# Altium footprint library PcbLib1.PcbLib: 36 footprints (part 2 of 3)
Each footprint in its own frame and in the unit in brackets; x right, y up, seen from the top. Pads: shape width x height; smd on the part's side, far side on the other; paste and mask are expansions set on the pad; w line width, h text height; cw(c..) or ccw(c..) is an arc to the next point about the centre after c.
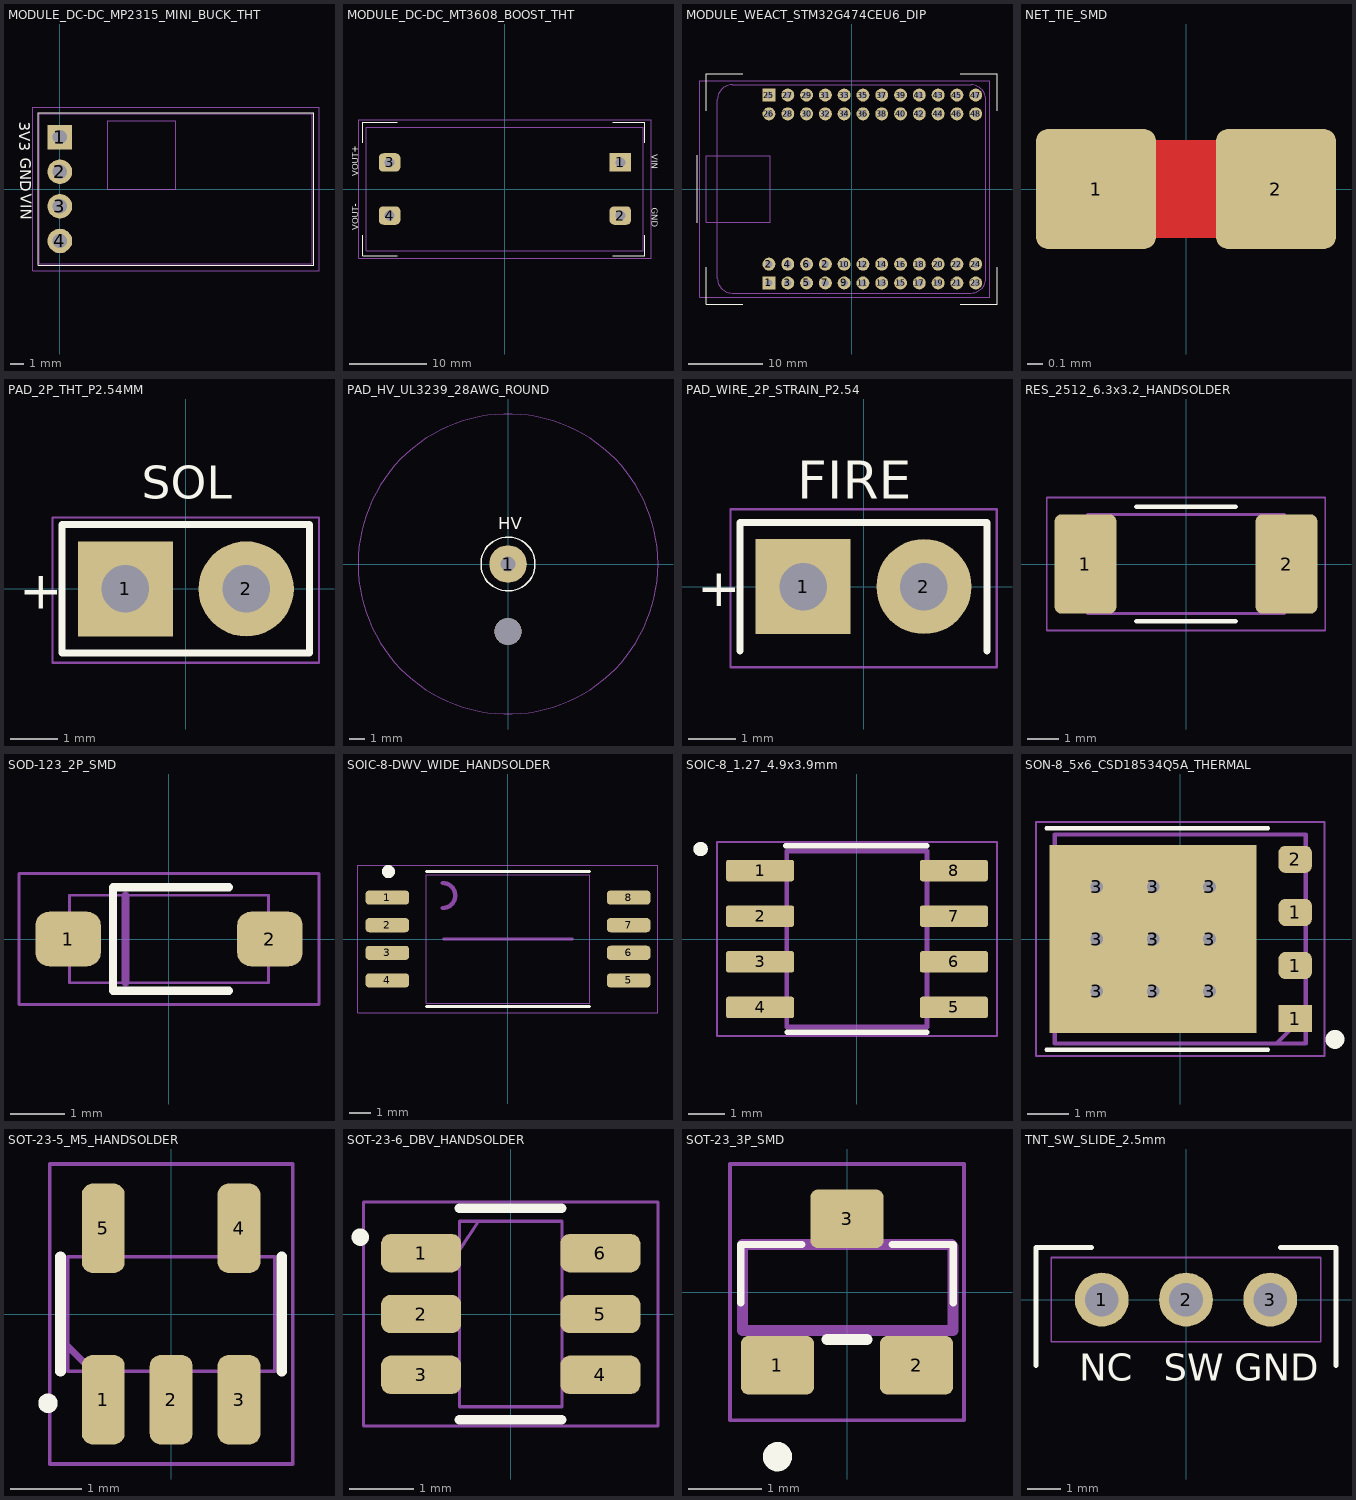
[diagram p1: the footprints below, top view; thin cyan lines are the x and y axes]

## MODULE_DC-DC_MP2315_MINI_BUCK_THT [mm] "Mini MP2315 Step-Down Buck Converter Module, 4-Pin 2.54mm Pitch Header (VO+, GND, IN+, EN), Board Size 20x11mm, Sub-Board PCB Mount"
pads (4):
  rect 1.8x1.8 hole 1.05 unplated mask+0.05: 1(0,3.81)
  round 1.8 hole 1.05 unplated mask+0.05: 2(0,1.27) 3(0,-1.27) 4(0,-3.81)
Top Overlay:
  lines w0.05: -1.6,-5.6 18.6,-5.6 18.6,5.6 -1.6,5.6 -1.6,-5.6
  text "VIN" at -2.875,-0.35 h0.8
  text "GND" at -2.925,2.275 h0.8
  text "3V3" at -3,4.95 h0.8
Top Assembly:
  lines w0.05: -1.5,-5.5 18.5,-5.5 18.5,5.5 -1.5,5.5 -1.5,-5.5 ; 3.5,0 8.5,0 8.5,5 3.5,5 3.5,0
  text ".Designator" at 8.15,-0.583 h0.8
Top Courtyard (Mech15):
  lines w0.05: -2,-6 19,-6 19,6 -2,6 -2,-6
3D body "05KJ_Mini_PCB_Regulator_With_Pin_Assem_.STEP": height 7.59, standoff -5.51, extent -1.55,-5.475 18.45,5.525

## MODULE_DC-DC_MT3608_BOOST_THT [mm] "MT3608 Step-Up Boost Converter Module, 36x17x7mm, 4-Pin Corner Mount (VIN+, VIN-, VOUT+, VOUT-), Pitch 31.0x13.5mm, Preset to 15V"
pads (4):
  rect 2.8x2.4 hole 1.3 mask+0.05: 1(15,3.45)
  rrect50% 2.8x2.4 hole 1.3 mask+0.05: 2(15,-3.45) 3(-15,3.45) 4(-15,-3.45)
Top Overlay:
  lines w0.15: -18.5,-6 -18.5,-8.7 -14,-8.7 ; -18.5,6 -18.5,8.7 -14,8.7 ; 14,-8.7 18.2,-8.7 18.2,-6 ; 14,8.7 18.2,8.7 18.2,6
  text "GND" at 19.1,-2.434 h0.8
  text "VIN" at 19.1,4.5 h0.8
  text "VOUT-" at -19.1,-5.366 h0.8
  text "VOUT+" at -19.1,1.634 h0.8
Top Assembly:
  lines w0.05: -18,-8 18,-8 18,8 -18,8 -18,-8
  text ".Designator" at -3.999,-0.267 h0.8
Top Courtyard (Mech15):
  lines w0.1: -19,-9 19,-9 19,9 -19,9 -19,-9

## MODULE_WEACT_STM32G474CEU6_DIP [mm] "WeAct Studio STM32G474CEU6 Core Board, 36.28x28.14mm, 4x12 Pin Headers Pitch 2.54mm (Row Dist 20.32/25.4mm) + 4-Pin SWD, Mapped to Custom Schematic Pins"
pads (48):
  rect 1.75x1.75 hole 1 mask+0.05: 1(-11.17,-12.7) 25(-11.17,12.7)
  round 1.75 hole 1 mask+0.05: 2(-11.17,-10.16) 2(-3.55,-10.16) 3(-8.63,-12.7) 4(-8.63,-10.16) 5(-6.09,-12.7) 6(-6.09,-10.16) 7(-3.55,-12.7) 9(-1.01,-12.7) 10(-1.01,-10.16) 11(1.53,-12.7) 12(1.53,-10.16) 13(4.07,-12.7) 14(4.07,-10.16) 15(6.61,-12.7) 16(6.61,-10.16) 17(9.15,-12.7) 18(9.15,-10.16) 19(11.69,-12.7) 20(11.69,-10.16) 21(14.23,-12.7) 22(14.23,-10.16) 23(16.77,-12.7) 24(16.77,-10.16) 26(-11.17,10.16) 27(-8.63,12.7) 28(-8.63,10.16) 29(-6.09,12.7) 30(-6.09,10.16) 31(-3.55,12.7) 32(-3.55,10.16) 33(-1.01,12.7) 34(-1.01,10.16) 35(1.53,12.7) 36(1.53,10.16) 37(4.07,12.7) 38(4.07,10.16) 39(6.61,12.7) 40(6.61,10.16) 41(9.15,12.7) 42(9.15,10.16) 43(11.69,12.7) 44(11.69,10.16) 45(14.23,12.7) 46(14.23,10.16) 47(16.77,12.7) 48(16.77,10.16)
Top Overlay:
  lines w0.15: -20.9,-4.55 -20.9,4.55 ; -19.65,-10.6 -19.65,-15.55 -14.7,-15.55 ; -19.65,10.6 -19.65,15.55 -14.7,15.55 ; 14.7,-15.55 19.65,-15.55 19.65,-10.6 ; 14.7,15.55 19.65,15.55 19.65,10.6
Top Assembly:
  lines w0.1: -19.64,-4.5 -11,-4.5 -11,4.5 -19.64,4.5 -19.64,-4.5 ; -18.14,-12.07 ccw(c-16.14,-12.07) -16.14,-14.07 16.14,-14.07 ccw(c16.14,-12.07) 18.14,-12.07 18.14,12.075 ccw(c16.14,12.075) 16.14,14.075 -16.14,14.075 ccw(c-16.14,12.075) -18.14,12.075 -18.14,-12.07
  text ".Designator" at -4.998,-0.333 h1
Top Courtyard (Mech15):
  lines w0.1: -20.5,-14.6 18.65,-14.6 18.65,14.6 -20.5,14.6 -20.5,-14.6
3D body "WeAct-STM32G47x_CoreBoard_3D (1).step": height 7.25, standoff 0.25, extent -18.34,-14.35 18.19,14.045

## NET_TIE_SMD [mm]
pads (2):
  rrect20% 0.8x0.8 smd mask+0: 1(-0.6,0) 2(0.6,0)
Top Layer:
  region: -0.225,0.325 0.225,0.325 0.225,-0.325 -0.225,-0.325

## PAD_2P_THT_P2.54MM [mm]
height 10
pads (2):
  rect 2x2 hole 1 mask+0.05: 1(-1.27,0)
  round 2 hole 1 mask+0.05: 2(1.27,0)
Top Overlay:
  lines w0.15: -2.6,-1.35 2.6,-1.35 2.6,1.35 -2.6,1.35 -2.6,-1.35
  text "+" at -3.505,-0.413 h0.8
  text "SOL" at -0.93,1.895 h0.7
Top Courtyard (Mech15):
  lines w0.05: -2.8,-1.55 2.8,-1.55 2.8,1.501 -2.8,1.501 -2.8,-1.55
3D body: height 3, standoff 0, extent -2.676,-1.425 2.675,1.425

## PAD_HV_UL3239_28AWG_ROUND [mm] "High Voltage Wire Terminal, UL3239 28AWG (7x0.12), Hole D=1.0mm, Pad D=2.5mm Round, Integrated Strain Relief Hole D=1.8mm, 6-7kV DBD Jet"
pads (2):
  round 2.5 hole 1 mask+0.05: 1(0,0)
  round 1.8 hole 1.8 unplated mask+0: ""(0,-4.5)
Top Overlay:
  circle w0.1: c0,0 r1.8
  text "HV" at -0.666,2.3 h0.8
Top Courtyard (Mech15):
  circle w0.05: c0,0 r10

## PAD_WIRE_2P_STRAIN_P2.54 [mm]
height 10
pads (2):
  rect 2x2 hole 1 mask+0.05: 1(-1.27,0)
  round 2 hole 1 mask+0.05: 2(1.27,0)
Top Overlay:
  lines w0.15: -2.6,-1.35 -2.6,1.35 2.6,1.35 2.6,-1.35
  text "FIRE" at -1.4,1.85 h0.8
  text "+" at -3.505,-0.413 h0.8
Bottom Overlay:
  lines w0.15: -2.6,-1.35 -2.6,-1.499 2.6,-1.499 2.6,-1.325
Top Courtyard (Mech15):
  lines w0.05: 2.8,1.625 2.8,-1.7 -2.8,-1.7 -2.8,1.625 2.808,1.625
3D body: height 3, standoff 0, extent -2.676,-1.425 2.675,1.425

## RES_2512_6.3x3.2_HANDSOLDER [mm] "Resistor SMD 2512 (Metric 6432), 1W, Extended Pads (2.00x3.20mm, 4.5mm Gap, 8.5mm Span) for Manual Soldering, Pulse Snubber"
pads (2):
  rrect20% 2x3.2 smd mask+0.05: 1(-3.25,0) 2(3.25,0)
Top Overlay:
  lines w0.15: -1.6,-1.85 1.6,-1.85 ; -1.6,1.85 1.6,1.85
  text ".Designator" at -3.999,2.583 h0.8
Top Assembly:
  lines w0.1: -2.45,-1.6 -2.45,1.6 ; 2.45,-1.6 2.45,1.6 ; -3.18,-1.6 3.18,-1.6 3.18,1.6 -3.18,1.6 -3.18,-1.6
  text ".Designator" at -3.999,-0.267 h0.8
Top Courtyard (Mech15):
  lines w0.05: -4.5,-2.15 4.5,-2.15 4.5,2.15 -4.5,2.15 -4.5,-2.15
3D body "RHC2512FT33R0.STEP": height 0.7, standoff 0, extent -3.175,-1.575 3.175,1.575

## SOD-123_2P_SMD [mm] "SOD-123 Surface Mount Diode, 2-Lead, Body 2.7x1.6mm, Total Length 3.7mm, IPC-7351"
height 1.35
pads (2):
  rrect50% 1.2x1 smd mask+0.05: 1(-1.85,0) 2(1.85,0)
Top Overlay:
  lines w0.15: 1.1,-0.95 -1.025,-0.95 -1.025,0.95 1.1,0.95
Bottom Overlay:
  text ".Designator" at -3.499,1.667 h0.7
Top Assembly:
  lines w0.05: -1.825,-0.8 1.825,-0.8 1.825,0.8 -1.825,0.8 -1.825,-0.8
  lines w0.15: -0.8,-0.8 -0.8,0.8
Top Courtyard (Mech15):
  lines w0.05: -2.75,-1.2 2.75,-1.2 2.75,1.2 -2.75,1.2 -2.75,-1.2
3D body "1N5819HW-7-F--3DModel-STEP-56544.STEP": height 1.55, standoff 0.02, extent -1.825,-0.775 1.825,0.775

## SOIC-8-DWV_WIDE_HANDSOLDER [mm] "SOIC-8 Wide Body (TI DWV0008A), 8-Lead, Pitch 1.27mm, Body 7.5x5.85mm, 9.1mm Creepage/Clearance, Extended Pads (2.0x0.65mm) for Manual Soldering, AMC1311"
pads (8):
  rrect50% 2x0.65 smd mask+0.05: 1(-5.55,1.905) 2(-5.55,0.635) 3(-5.55,-0.636) 4(-5.55,-1.905) 5(5.55,-1.905) 6(5.55,-0.635) 7(5.55,0.635) 8(5.55,1.905)
Top Overlay:
  circle w0.3: c-5.5,3.1 r0.15
  lines w0.15: -3.75,-3.1 3.75,-3.1 ; -3.75,3.1 3.75,3.1
  text ".Designator" at -3.7,4.233 h0.7
Top Assembly:
  lines w0.05: -3.75,-2.95 3.75,-2.95 3.75,2.95 -3.75,2.95 -3.75,-2.95
  lines w0.15: -2.95,0 2.95,0
  lines w0.2: -3,1.424 ccw(c-3,2) -3,2.576
  text ".Designator" at -3.5,0.333 h0.7
Top Courtyard (Mech15):
  lines w0.05: -6.9,-3.4 6.9,-3.4 6.9,3.4 -6.9,3.4 -6.9,-3.4
3D body "AMC1311BDWVR.STEP": height 2.8, standoff 0, extent -5.75,-2.925 5.75,2.925

## SOIC-8_1.27_4.9x3.9mm [mm] "SOIC-8 Surface Mount IC, 8-Lead, Pitch 1.27mm, Body 4.90x3.90mm, Span 6.00mm (TI D-Package)"
pads (8):
  rrect25% 1.9x0.6 smd paste+0 mask+0.05: 1(-2.7,1.905) 2(-2.7,0.635) 3(-2.7,-0.635) 4(-2.7,-1.905) 5(2.7,-1.905) 6(2.7,-0.635) 7(2.7,0.635) 8(2.7,1.905)
Top Overlay:
  circle w0.2: c-4.355,2.505 r0.1
  lines w0.15: -1.98,2.6 1.95,2.6 ; -1.95,-2.6 1.95,-2.6
Top Assembly:
  lines w0.05: -1.95,-2.45 1.95,-2.45 1.95,2.45 -1.95,2.45 -1.95,-2.45
Mechanical 13:
  circle w0.2: c-4.355,2.505 r0.1
  lines w0.127: -1.95,-2.45 -1.95,2.45 1.95,2.45 1.95,-2.45 -1.95,-2.45
Top Courtyard (Mech15):
  lines w0.05: -3.9,-2.7 3.9,-2.7 3.9,2.7 -3.9,2.7 -3.9,-2.7
3D body "step_temp.STEP": height 1.75, standoff 0, extent -3,-2.45 3,2.45

## SON-8_5x6_CSD18534Q5A_THERMAL [mm] "N-Channel Power MOSFET, SON 5x6mm (TI Q5A Package), Monolithic Drain Thermal Pad (4.95x4.50mm) with 2x2 Stencil Array & Thermal Vias, CSD18534Q5A"
pads (14):
  rect 0.8x0.65 smd mask+0.05: 1(2.75,-1.905)
  rrect50% 0.8x0.65 smd mask+0.05: 1(2.75,-0.635) 1(2.75,0.635) 2(2.75,1.905)
  round 0.6 hole 0.3 mask+0.05: 3(-2,-1.25) 3(-2,0) 3(-2,1.25) 3(-0.65,-1.25) 3(-0.65,0) 3(-0.65,1.25) 3(0.7,-1.25) 3(0.7,0) 3(0.7,1.25)
  rect 4.95x4.5 smd paste-5 mask+0.05: 3(-0.65,0)
Top Overlay:
  circle w0.4: c3.7,-2.4 r0.025
  lines w0.1: -3.2,-2.65 2.1,-2.65 ; -3.2,2.65 2.1,2.65
Top Paste:
  region: -0.4,-1.9 1.4,-1.9 1.4,-0.3 -0.4,-0.3
  region: -2.7,-1.9 -0.9,-1.9 -0.9,-0.3 -2.7,-0.3
  region: -0.4,0.3 1.4,0.3 1.4,1.9 -0.4,1.9
  region: -2.7,0.3 -0.9,0.3 -0.9,1.9 -2.7,1.9
Top Assembly:
  lines w0.1: 2.3,-2.5 3,-1.8 ; 3,-1.8 3,-1.8 ; -3,-2.5 3,-2.5 3,2.5 -3,2.5 -3,-2.5
  text ".Designator" at -4.149,-0.233 h0.7
Top Courtyard (Mech15):
  lines w0.05: -3.45,-2.8 3.45,-2.8 3.45,2.8 -3.45,2.8 -3.45,-2.8
3D body "CSD18534Q5A.STEP": height 1.1, standoff 0, extent -3,-2.45 3,2.45

## SOT-23-5_M5_HANDSOLDER [mm] "SOT-23-5 (TO-236-5), 5-Lead, Pitch 0.95mm, Extended Pads (1.25x0.60mm) for Manual Soldering, Body 2.90x1.60mm, ME6211"
pads (5):
  rrect50% 0.6x1.25 smd mask+0.04: 1(-0.95,-1.2) 2(0,-1.2) 3(0.95,-1.2) 4(0.95,1.2) 5(-0.95,1.2)
Top Overlay:
  circle w0.2: c-1.725,-1.25 r0.035
  lines w0.15: -1.55,-0.8 -1.55,0.8 ; 1.55,-0.8 1.55,0.8
Bottom Overlay:
  text ".Designator" at -2.47,2.522 h0.5
Top Assembly:
  lines w0.05: -1.45,-0.8 1.45,-0.8 1.45,0.8 -1.45,0.8 -1.45,-0.8
  lines w0.1: -1.45,-0.45 -1.1,-0.8
  text ".Designator" at -2.495,-0.178 h0.5
Top Courtyard (Mech15):
  lines w0.05: -1.7,-2.1 1.7,-2.1 1.7,2.1 -1.7,2.1 -1.7,-2.1
3D body "ME6211C33M5G--3DModel-STEP-269445.STEP": height 1.45, standoff 0, extent -1.45,-1.35 1.45,1.35

## SOT-23-6_DBV_HANDSOLDER [mm] "SOT-23-6 (TI DBV0006A), 6-Lead, Pitch 0.95mm, Extended Pads (1.25x0.60mm) for Manual Soldering, UCC27511"
pads (6):
  rrect50% 1.25x0.6 smd mask+0.04: 1(-1.4,0.95) 2(-1.4,0) 3(-1.4,-0.95) 4(1.4,-0.95) 6(1.4,0.95)
  rrect50% 1.25x0.6 smd mask+0.05: 5(1.4,0)
Top Overlay:
  circle w0.2: c-2.35,1.2 r0.035
  lines w0.15: -0.8,-1.65 0.8,-1.65 ; -0.8,1.65 0.8,1.65
  text ".Designator" at -2.57,2.122 h0.5
Top Assembly:
  lines w0.05: -0.8,1 -0.5,1.45 ; -0.8,-1.45 0.8,-1.45 0.8,1.45 -0.8,1.45 -0.8,-1.45
  text ".Designator" at -2.495,-0.153 h0.5
Top Courtyard (Mech15):
  lines w0.05: -2.3,-1.75 2.3,-1.75 2.3,1.75 -2.3,1.75 -2.3,-1.75
3D body "UCC27511DBVR--3DModel-STEP-56544.STEP": height 1.45, standoff 0, extent -1.4,-1.45 1.4,1.45

## SOT-23_3P_SMD [mm] "SOT-23 (TO-236AB) 3-Lead, Pitch 0.95mm, Body 2.9x1.3mm, IPC-7351 Nominal"
height 1.2
pads (3):
  rrect25% 1x0.8 smd paste+0 mask+0.05: 1(-0.95,-1) 2(0.95,-1) 3(0,1)
Top Overlay:
  circle w0.2: c-0.95,-2.25 r0.1
  lines w0.1: -1.45,-0.15 -1.45,0.65 -0.62,0.65 ; 0.62,0.65 1.45,0.65 1.45,-0.15
  lines w0.15: -0.275,-0.65 0.275,-0.65
  text ".Designator" at -3.4,2.233 h0.7
Top Assembly:
  lines w0.15: -1.425,-0.525 -1.425,0.65 1.425,0.65 1.45,0.625 1.45,-0.525 -1.425,-0.525
  text ".Designator" at -3.675,-0.258 h0.8
Top Courtyard (Mech15):
  lines w0.05: -1.6,-1.75 1.6,-1.75 1.6,1.75 -1.6,1.75 -1.6,-1.75
3D body "BAT54C.STEP": height 1.3, standoff 0, extent -1.52,-1.3 1.52,1.3

## TNT_SW_SLIDE_2.5mm [mm] "Slide Switch SPDT (1P2T), Vertical, Body 8.5x3.7x3.5mm, Metric Pitch 2.50mm, Travel 2.0mm, Extended Oval Pads (1.70x2.40mm) for Manual Soldering, SS12D00"
height 3.7
pads (3):
  round 1.6 hole 1 mask+0.05: 1(-2.5,0) 2(0,0) 3(2.5,0)
Top Overlay:
  lines w0.15: -4.45,-1.95 -4.45,1.55 -2.8,1.55 ; 2.8,1.55 4.45,1.55 4.45,-1.95
  text "GND" at 1.434,-2.4 h0.8
  text "SW" at -0.666,-2.4 h0.8
  text "NC" at -3.166,-2.4 h0.8
Top Assembly:
  text ".Designator" at -3.449,2.017 h0.7
Top Courtyard (Mech15):
  lines w0.05: -4,-1.25 4,-1.25 4,1.25 -4,1.25 -4,-1.25